# Altium integrated library Texas Instruments Interface RS-485.IntLib: 137 symbols (part 5 of 5)
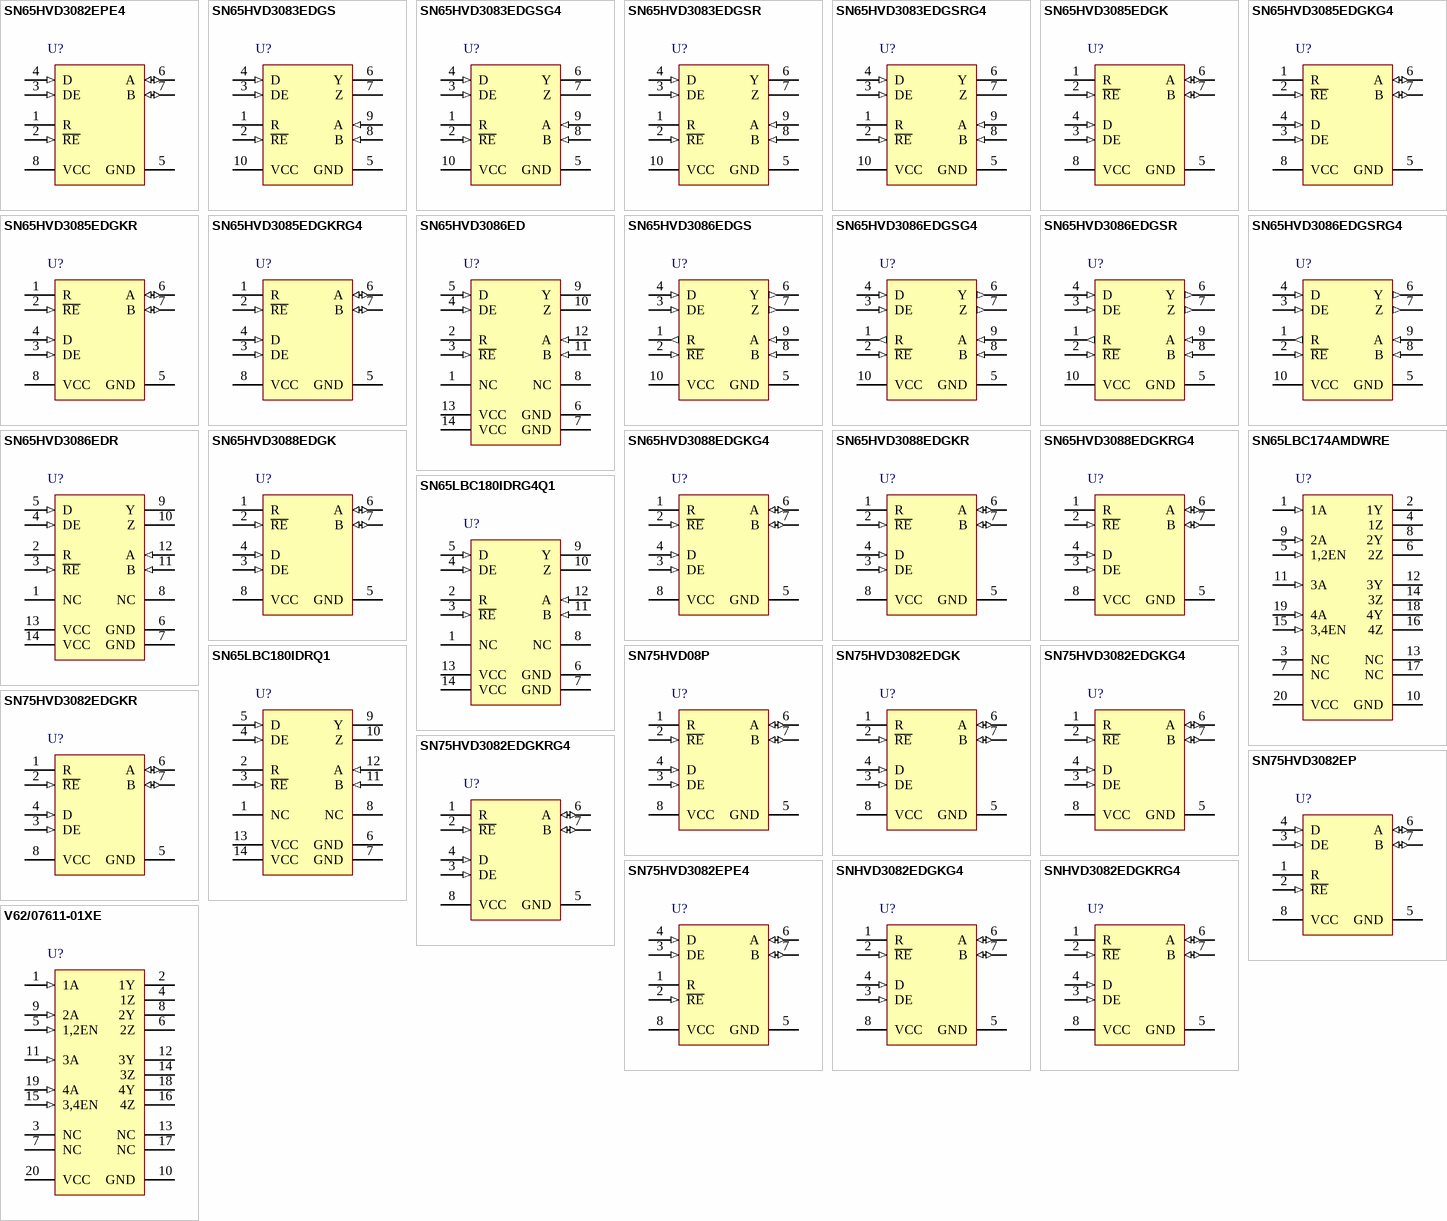
[diagram p7: symbols SN65HVD3082EPE4 to V62/07611-01XE]

## SN65HVD3083EDGSG4
designator U?
Low-Power RS-485 Full Duplex Driver / Receiver, 1 Mbps, 5 V, -40 to 85 degC, 10-pin MSOP (DGS), Green (RoHS & no Sb/Br); Manufacturer: Texas Instruments; PartNumber: SN65HVD3083EDGSG4; # of TX/RX: 1 TX / 1 RX; Drivers Per Package: 1; Number of Nodes: 256; Common Mode Range: -7 to 12; ESD(kV): 16; Fault Protection(V): -9 to 14; Fail Safe: Yes; ICC(Max)(mA): 0.75; Supply Voltage(s)(V): 5; Rating: Catalog; DatasheetVersion: SLLS771D; PackageVersion: revC, Feb-2004; PackageReference: DGS10; PackageDescription: 10-Pin Thin Shrink Small Outline Package 0.5 mm Pitch; Supplier 1: Digi-Key; Supplier Part Number 1: SN65HVD3083EDGSG4-ND; Supplier 2: Newark; Supplier Part Number 2: 28M7639; Supplier 3: Mouser; Supplier Part Number 3: 595-SN65HVD308EDGSG4; Eco-Plan: Green (RoHS & no Sb/Br); SubFamily: RS-485; Receivers Per Package: 1; Isolated: No; Duplex: Full; Signaling Rate(Mbps): 1; Mounting Technology: Surface Mount; Code_JEDEC: MO-187-BA; ComponentLink1Description: Datasheet; ComponentLink1URL: http://www.ti.com/general/docs/lit/getliterature.tsp?genericPartNumber=SN65HVD3083E&fileType=pdf; ComponentLink2Description: Package Specification; ComponentLink2URL: http://www.ti.com/litv/pdf/mpds035b
footprint DGS10_N (TSSOP, 10-Leads, Body 3x3mm, Pitch 0.5mm, IPC Medium Density)
footprint DGS10_L (TSSOP, 10-Leads, Body 3x3mm, Pitch 0.5mm, IPC High Density)
footprint DGS10_M (TSSOP, 10-Leads, Body 3x3mm, Pitch 0.5mm, IPC Low Density)
pins: 1 R (hiz), 2 ~{RE} (in), 3 DE (in), 4 D (in), 5 GND (power), 6 Y (hiz), 7 Z (hiz), 8 B (in), 9 A (in), 10 VCC (power)

## SN65HVD3083EDGSR
designator U?
Low-Power RS-485 Full Duplex Driver / Receiver, 1 Mbps, 5 V, -40 to 85 degC, 10-pin MSOP (DGS), Green (RoHS & no Sb/Br); Manufacturer: Texas Instruments; PartNumber: SN65HVD3083EDGSR; # of TX/RX: 1 TX / 1 RX; Drivers Per Package: 1; Number of Nodes: 256; Common Mode Range: -7 to 12; ESD(kV): 16; Fault Protection(V): -9 to 14; Fail Safe: Yes; ICC(Max)(mA): 0.75; Supply Voltage(s)(V): 5; Rating: Catalog; DatasheetVersion: SLLS771D; PackageVersion: revC, Feb-2004; PackageReference: DGS10; PackageDescription: 10-Pin Thin Shrink Small Outline Package 0.5 mm Pitch; Supplier 1: Digi-Key; Supplier Part Number 1: 296-21411-2-ND; Supplier 2: Digi-Key; Supplier Part Number 2: 296-21411-1-ND; Supplier 3: Digi-Key; Supplier Part Number 3: 296-21411-6-ND; Supplier 4: Newark; Supplier Part Number 4: 27M0824; Supplier 5: Mouser; Supplier Part Number 5: 595-SN65HVD3083EDGSR; Eco-Plan: Green (RoHS & no Sb/Br); SubFamily: RS-485; Receivers Per Package: 1; Isolated: No; Duplex: Full; Signaling Rate(Mbps): 1; Mounting Technology: Surface Mount; Code_JEDEC: MO-187-BA; ComponentLink1Description: Datasheet; ComponentLink1URL: http://www.ti.com/general/docs/lit/getliterature.tsp?genericPartNumber=SN65HVD3083E&fileType=pdf; ComponentLink2Description: Package Specification; ComponentLink2URL: http://www.ti.com/litv/pdf/mpds035b
footprint DGS10_N (TSSOP, 10-Leads, Body 3x3mm, Pitch 0.5mm, IPC Medium Density)
footprint DGS10_L (TSSOP, 10-Leads, Body 3x3mm, Pitch 0.5mm, IPC High Density)
footprint DGS10_M (TSSOP, 10-Leads, Body 3x3mm, Pitch 0.5mm, IPC Low Density)
pins: 1 R (hiz), 2 ~{RE} (in), 3 DE (in), 4 D (in), 5 GND (power), 6 Y (hiz), 7 Z (hiz), 8 B (in), 9 A (in), 10 VCC (power)

## SN65HVD3083EDGSRG4
designator U?
Low-Power RS-485 Full Duplex Driver / Receiver, 1 Mbps, 5 V, -40 to 85 degC, 10-pin MSOP (DGS), Green (RoHS & no Sb/Br); Manufacturer: Texas Instruments; PartNumber: SN65HVD3083EDGSRG4; # of TX/RX: 1 TX / 1 RX; Drivers Per Package: 1; Number of Nodes: 256; Common Mode Range: -7 to 12; ESD(kV): 16; Fault Protection(V): -9 to 14; Fail Safe: Yes; ICC(Max)(mA): 0.75; Supply Voltage(s)(V): 5; Rating: Catalog; DatasheetVersion: SLLS771D; PackageVersion: revC, Feb-2004; PackageReference: DGS10; PackageDescription: 10-Pin Thin Shrink Small Outline Package 0.5 mm Pitch; Supplier 1: Digi-Key; Supplier Part Number 1: SN65HVD3083EDGSRG4-ND; Supplier 2: Newark; Supplier Part Number 2: 28M7640; Supplier 3: Mouser; Supplier Part Number 3: 595-SN65HVD3083GSRG4; Eco-Plan: Green (RoHS & no Sb/Br); SubFamily: RS-485; Receivers Per Package: 1; Isolated: No; Duplex: Full; Signaling Rate(Mbps): 1; Mounting Technology: Surface Mount; Code_JEDEC: MO-187-BA; ComponentLink1Description: Datasheet; ComponentLink1URL: http://www.ti.com/general/docs/lit/getliterature.tsp?genericPartNumber=SN65HVD3083E&fileType=pdf; ComponentLink2Description: Package Specification; ComponentLink2URL: http://www.ti.com/litv/pdf/mpds035b
footprint DGS10_N (TSSOP, 10-Leads, Body 3x3mm, Pitch 0.5mm, IPC Medium Density)
footprint DGS10_L (TSSOP, 10-Leads, Body 3x3mm, Pitch 0.5mm, IPC High Density)
footprint DGS10_M (TSSOP, 10-Leads, Body 3x3mm, Pitch 0.5mm, IPC Low Density)
pins: 1 R (hiz), 2 ~{RE} (in), 3 DE (in), 4 D (in), 5 GND (power), 6 Y (hiz), 7 Z (hiz), 8 B (in), 9 A (in), 10 VCC (power)

## SN65HVD3085EDGK
designator U?
Low-power Half-Duplex RS-485 Transceiver, 1 Mbps, 5 V, -40 to 85 degC, 8-pin MSOP (DGK), Green (RoHS & no Sb/Br); Manufacturer: Texas Instruments; PartNumber: SN65HVD3085EDGK; # of TX/RX: 1 TX / 1 RX; Drivers Per Package: 1; Number of Nodes: 256; Duplex: Half; Common Mode Range: -7 to 12; ESD(kV): 16; Fault Protection(V): -9 to 14; Fail Safe: Idle, Open, Short; ICC(Max)(mA): 0.9; Supply Voltage(s)(V): 5; Rating: Catalog; DatasheetVersion: SLLS562G; PackageVersion: revE, May-2006; PackageReference: DGK8; PackageDescription: 8-Pin Thin Small Outline Package 3 x 3 mm Body ,0.65 mm Pitch; Supplier 1: Digi-Key; Supplier Part Number 1: 296-17171-5-ND; Supplier 2: Mouser; Supplier Part Number 2: 595-SN65HVD3085EDGK; Eco-Plan: Green (RoHS & no Sb/Br); SubFamily: RS-485; Receivers Per Package: 1; Isolated: No; Signaling Rate(Mbps): 1; Footprint: SN75176; Mounting Technology: Surface Mount; Code_JEDEC: MO-187-AA; ComponentLink1Description: Datasheet; ComponentLink1URL: http://www.ti.com/general/docs/lit/getliterature.tsp?genericPartNumber=SN65HVD3085E&fileType=pdf; ComponentLink2Description: Package Specification; ComponentLink2URL: http://www.ti.com/litv/pdf/msoi002j
footprint DGK8_N (TSOP, 8-Leads, Body 3x3mm, Pitch 0.65mm, IPC Medium Density)
footprint DGK8_L (TSOP, 8-Leads, Body 3x3mm, Pitch 0.65mm, IPC High Density)
footprint DGK8_M (TSOP, 8-Leads, Body 3x3mm, Pitch 0.65mm, IPC Low Density)
pins: 1 R (hiz), 2 ~{RE} (in), 3 DE (in), 4 D (in), 5 GND (power), 6 A (io), 7 B (io), 8 VCC (power)

## SN65HVD3085EDGKG4
designator U?
Low-power Half-Duplex RS-485 Transceiver, 1 Mbps, 5 V, -40 to 85 degC, 8-pin MSOP (DGK), Green (RoHS & no Sb/Br); Manufacturer: Texas Instruments; PartNumber: SN65HVD3085EDGKG4; # of TX/RX: 1 TX / 1 RX; Drivers Per Package: 1; Number of Nodes: 256; Duplex: Half; Common Mode Range: -7 to 12; ESD(kV): 16; Fault Protection(V): -9 to 14; Fail Safe: Idle, Open, Short; ICC(Max)(mA): 0.9; Supply Voltage(s)(V): 5; Rating: Catalog; DatasheetVersion: SLLS562G; PackageVersion: revE, May-2006; PackageReference: DGK8; PackageDescription: 8-Pin Thin Small Outline Package 3 x 3 mm Body ,0.65 mm Pitch; Supplier 1: Digi-Key; Supplier Part Number 1: SN65HVD3085EDGKG4-ND; Eco-Plan: Green (RoHS & no Sb/Br); SubFamily: RS-485; Receivers Per Package: 1; Isolated: No; Signaling Rate(Mbps): 1; Footprint: SN75176; Mounting Technology: Surface Mount; Code_JEDEC: MO-187-AA; ComponentLink1Description: Datasheet; ComponentLink1URL: http://www.ti.com/general/docs/lit/getliterature.tsp?genericPartNumber=SN65HVD3085E&fileType=pdf; ComponentLink2Description: Package Specification; ComponentLink2URL: http://www.ti.com/litv/pdf/msoi002j
footprint DGK8_N (TSOP, 8-Leads, Body 3x3mm, Pitch 0.65mm, IPC Medium Density)
footprint DGK8_L (TSOP, 8-Leads, Body 3x3mm, Pitch 0.65mm, IPC High Density)
footprint DGK8_M (TSOP, 8-Leads, Body 3x3mm, Pitch 0.65mm, IPC Low Density)
pins: 1 R (hiz), 2 ~{RE} (in), 3 DE (in), 4 D (in), 5 GND (power), 6 A (io), 7 B (io), 8 VCC (power)

## SN65HVD3085EDGKR
designator U?
Low-power Half-Duplex RS-485 Transceiver, 1 Mbps, 5 V, -40 to 85 degC, 8-pin MSOP (DGK), Green (RoHS & no Sb/Br); Manufacturer: Texas Instruments; PartNumber: SN65HVD3085EDGKR; # of TX/RX: 1 TX / 1 RX; Drivers Per Package: 1; Number of Nodes: 256; Duplex: Half; Common Mode Range: -7 to 12; ESD(kV): 16; Fault Protection(V): -9 to 14; Fail Safe: Idle, Open, Short; ICC(Max)(mA): 0.9; Supply Voltage(s)(V): 5; Rating: Catalog; DatasheetVersion: SLLS562G; PackageVersion: revE, May-2006; PackageReference: DGK8; PackageDescription: 8-Pin Thin Small Outline Package 3 x 3 mm Body ,0.65 mm Pitch; Supplier 1: Digi-Key; Supplier Part Number 1: SN65HVD3085EDGKR-ND; Supplier 2: Farnell; Supplier Part Number 2: 1574990; Supplier 3: Newark; Supplier Part Number 3: 21J8893; Supplier 4: Mouser; Supplier Part Number 4: 595-SN65HVD3085EDGKR; Eco-Plan: Green (RoHS & no Sb/Br); SubFamily: RS-485; Receivers Per Package: 1; Isolated: No; Signaling Rate(Mbps): 1; Footprint: SN75176; Mounting Technology: Surface Mount; Code_JEDEC: MO-187-AA; ComponentLink1Description: Datasheet; ComponentLink1URL: http://www.ti.com/general/docs/lit/getliterature.tsp?genericPartNumber=SN65HVD3085E&fileType=pdf; ComponentLink2Description: Package Specification; ComponentLink2URL: http://www.ti.com/litv/pdf/msoi002j
footprint DGK8_N (TSOP, 8-Leads, Body 3x3mm, Pitch 0.65mm, IPC Medium Density)
footprint DGK8_L (TSOP, 8-Leads, Body 3x3mm, Pitch 0.65mm, IPC High Density)
footprint DGK8_M (TSOP, 8-Leads, Body 3x3mm, Pitch 0.65mm, IPC Low Density)
pins: 1 R (hiz), 2 ~{RE} (in), 3 DE (in), 4 D (in), 5 GND (power), 6 A (io), 7 B (io), 8 VCC (power)

## SN65HVD3085EDGKRG4
designator U?
Low-power Half-Duplex RS-485 Transceiver, 1 Mbps, 5 V, -40 to 85 degC, 8-pin MSOP (DGK), Green (RoHS & no Sb/Br); Manufacturer: Texas Instruments; PartNumber: SN65HVD3085EDGKRG4; # of TX/RX: 1 TX / 1 RX; Drivers Per Package: 1; Number of Nodes: 256; Duplex: Half; Common Mode Range: -7 to 12; ESD(kV): 16; Fault Protection(V): -9 to 14; Fail Safe: Idle, Open, Short; ICC(Max)(mA): 0.9; Supply Voltage(s)(V): 5; Rating: Catalog; DatasheetVersion: SLLS562G; PackageVersion: revE, May-2006; PackageReference: DGK8; PackageDescription: 8-Pin Thin Small Outline Package 3 x 3 mm Body ,0.65 mm Pitch; Supplier 1: Digi-Key; Supplier Part Number 1: SN65HVD3085EDGKRG4-ND; Supplier 2: Mouser; Supplier Part Number 2: 595-SN65HVD3085EDGG4; Eco-Plan: Green (RoHS & no Sb/Br); SubFamily: RS-485; Receivers Per Package: 1; Isolated: No; Signaling Rate(Mbps): 1; Footprint: SN75176; Mounting Technology: Surface Mount; Code_JEDEC: MO-187-AA; ComponentLink1Description: Datasheet; ComponentLink1URL: http://www.ti.com/general/docs/lit/getliterature.tsp?genericPartNumber=SN65HVD3085E&fileType=pdf; ComponentLink2Description: Package Specification; ComponentLink2URL: http://www.ti.com/litv/pdf/msoi002j
footprint DGK8_N (TSOP, 8-Leads, Body 3x3mm, Pitch 0.65mm, IPC Medium Density)
footprint DGK8_L (TSOP, 8-Leads, Body 3x3mm, Pitch 0.65mm, IPC High Density)
footprint DGK8_M (TSOP, 8-Leads, Body 3x3mm, Pitch 0.65mm, IPC Low Density)
pins: 1 R (hiz), 2 ~{RE} (in), 3 DE (in), 4 D (in), 5 GND (power), 6 A (io), 7 B (io), 8 VCC (power)

## SN65HVD3086ED
designator U?
Low-Power RS-485 Full Duplex Driver / Receiver, 20 Mbps, 5 V, 14-pin SOIC (D), Green (RoHS & no Sb/Br); Manufacturer: Texas Instruments; PartNumber: SN65HVD3086ED; # of TX/RX: 1 TX / 1 RX; Drivers Per Package: 1; Number of Nodes: 256; Signaling Rate(Mbps): 20; Common Mode Range: -7 to 12; ESD(kV): 16; Fault Protection(V): -9 to 14; Fail Safe: Yes; ICC(Max)(mA): 0.75; Supply Voltage(s)(V): 5; Rating: Catalog; DatasheetVersion: SLLS771D; PackageVersion: revM, Jun-2011; PackageReference: D14; PackageDescription: 14-Pin Plastic Small Outline Integrated Circuit, 8.7 x 3.9 mm, Pitch 1.27 mm Pitch; Supplier 1: Digi-Key; Supplier Part Number 1: 296-25637-5-ND; Supplier 2: Newark; Supplier Part Number 2: 64R0586; Supplier 3: Mouser; Supplier Part Number 3: 595-SN65HVD3086ED; Eco-Plan: Green (RoHS & no Sb/Br); SubFamily: RS-485; Receivers Per Package: 1; Isolated: No; Duplex: Full; Footprint: LBC180; Mounting Technology: Surface Mount; Code_JEDEC: MS-012AB; ComponentLink1Description: Datasheet; ComponentLink1URL: http://www.ti.com/general/docs/lit/getliterature.tsp?genericPartNumber=SN65HVD3086E&fileType=pdf; ComponentLink2Description: Package Specification; ComponentLink2URL: http://www.ti.com/litv/pdf/mpds177g
footprint D14_N (SOIC, 14-Leads, Body 8.7x3.9mm, Pitch 1.27mm, IPC Medium Density)
footprint D14_L (SOIC, 14-Leads, Body 8.7x3.9mm, Pitch 1.27mm, IPC High Density)
footprint D14_M (SOIC, 14-Leads, Body 8.7x3.9mm, Pitch 1.27mm, IPC Low Density)
pins: 1 NC, 2 R (hiz), 3 ~{RE} (in), 4 DE (in), 5 D (in), 6 GND (power), 7 GND (power), 8 NC, 9 Y (hiz), 10 Z (hiz), 11 B (in), 12 A (in), 13 VCC (power), 14 VCC (power)

## SN65HVD3086EDGS
designator U?
Low-Power RS-485 Full Duplex Driver / Receiver, 20 Mbps, 5 V, -40 to 85 degC, 10-pin MSOP (DGS), Green (RoHS & no Sb/Br); Manufacturer: Texas Instruments; PartNumber: SN65HVD3086EDGS; # of TX/RX: 1 TX / 1 RX; Drivers Per Package: 1; Number of Nodes: 256; Signaling Rate(Mbps): 20; Common Mode Range: -7 to 12; ESD(kV): 16; Fault Protection(V): -9 to 14; Fail Safe: Yes; ICC(Max)(mA): 0.75; Supply Voltage(s)(V): 5; Rating: Catalog; DatasheetVersion: SLLS771D; PackageVersion: revC, Feb-2004; PackageReference: DGS10; PackageDescription: 10-Pin Thin Shrink Small Outline Package 0.5 mm Pitch; Supplier 1: Digi-Key; Supplier Part Number 1: SN65HVD3086EDGS-ND; Supplier 2: Newark; Supplier Part Number 2: 27M0825; Supplier 3: Mouser; Supplier Part Number 3: 595-SN65HVD3086EDGS; Eco-Plan: Green (RoHS & no Sb/Br); SubFamily: RS-485; Receivers Per Package: 1; Isolated: No; Duplex: Full; Footprint: LBC180; Mounting Technology: Surface Mount; Code_JEDEC: MO-187-BA; ComponentLink1Description: Datasheet; ComponentLink1URL: http://www.ti.com/general/docs/lit/getliterature.tsp?genericPartNumber=SN65HVD3086E&fileType=pdf; ComponentLink2Description: Package Specification; ComponentLink2URL: http://www.ti.com/litv/pdf/mpds035b
footprint DGS10_N (TSSOP, 10-Leads, Body 3x3mm, Pitch 0.5mm, IPC Medium Density)
footprint DGS10_L (TSSOP, 10-Leads, Body 3x3mm, Pitch 0.5mm, IPC High Density)
footprint DGS10_M (TSSOP, 10-Leads, Body 3x3mm, Pitch 0.5mm, IPC Low Density)
pins: 1 R (out), 2 ~{RE} (in), 3 DE (in), 4 D (in), 5 GND (power), 6 Y (out), 7 Z (out), 8 B (in), 9 A (in), 10 VCC (power)

## SN65HVD3086EDGSG4
designator U?
Low-Power RS-485 Full Duplex Driver / Receiver, 20 Mbps, 5 V, -40 to 85 degC, 10-pin MSOP (DGS), Green (RoHS & no Sb/Br); Manufacturer: Texas Instruments; PartNumber: SN65HVD3086EDGSG4; # of TX/RX: 1 TX / 1 RX; Drivers Per Package: 1; Number of Nodes: 256; Signaling Rate(Mbps): 20; Common Mode Range: -7 to 12; ESD(kV): 16; Fault Protection(V): -9 to 14; Fail Safe: Yes; ICC(Max)(mA): 0.75; Supply Voltage(s)(V): 5; Rating: Catalog; DatasheetVersion: SLLS771D; PackageVersion: revC, Feb-2004; PackageReference: DGS10; PackageDescription: 10-Pin Thin Shrink Small Outline Package 0.5 mm Pitch; Supplier 1: Digi-Key; Supplier Part Number 1: SN65HVD3086EDGSG4-ND; Supplier 2: Farnell; Supplier Part Number 2: 1390631; Supplier 3: Newark; Supplier Part Number 3: 61M9878; Supplier 4: Newark; Supplier Part Number 4: 34M0027; Supplier 5: Mouser; Supplier Part Number 5: 595-65HVD3086EDGSG4; Eco-Plan: Green (RoHS & no Sb/Br); SubFamily: RS-485; Receivers Per Package: 1; Isolated: No; Duplex: Full; Footprint: LBC180; Mounting Technology: Surface Mount; Code_JEDEC: MO-187-BA; ComponentLink1Description: Datasheet; ComponentLink1URL: http://www.ti.com/general/docs/lit/getliterature.tsp?genericPartNumber=SN65HVD3086E&fileType=pdf; ComponentLink2Description: Package Specification; ComponentLink2URL: http://www.ti.com/litv/pdf/mpds035b
footprint DGS10_N (TSSOP, 10-Leads, Body 3x3mm, Pitch 0.5mm, IPC Medium Density)
footprint DGS10_L (TSSOP, 10-Leads, Body 3x3mm, Pitch 0.5mm, IPC High Density)
footprint DGS10_M (TSSOP, 10-Leads, Body 3x3mm, Pitch 0.5mm, IPC Low Density)
pins: 1 R (out), 2 ~{RE} (in), 3 DE (in), 4 D (in), 5 GND (power), 6 Y (out), 7 Z (out), 8 B (in), 9 A (in), 10 VCC (power)

## SN65HVD3086EDGSR
designator U?
Low-Power RS-485 Full Duplex Driver / Receiver, 20 Mbps, 5 V, -40 to 85 degC, 10-pin MSOP (DGS), Green (RoHS & no Sb/Br); Manufacturer: Texas Instruments; PartNumber: SN65HVD3086EDGSR; # of TX/RX: 1 TX / 1 RX; Drivers Per Package: 1; Number of Nodes: 256; Signaling Rate(Mbps): 20; Common Mode Range: -7 to 12; ESD(kV): 16; Fault Protection(V): -9 to 14; Fail Safe: Yes; ICC(Max)(mA): 0.75; Supply Voltage(s)(V): 5; Rating: Catalog; DatasheetVersion: SLLS771D; PackageVersion: revC, Feb-2004; PackageReference: DGS10; PackageDescription: 10-Pin Thin Shrink Small Outline Package 0.5 mm Pitch; Supplier 1: Digi-Key; Supplier Part Number 1: 296-21412-2-ND; Supplier 2: Digi-Key; Supplier Part Number 2: 296-21412-1-ND; Supplier 3: Digi-Key; Supplier Part Number 3: 296-21412-6-ND; Supplier 4: Newark; Supplier Part Number 4: 27M0826; Supplier 5: Mouser; Supplier Part Number 5: 595-SN65HVD3086EDGSR; Eco-Plan: Green (RoHS & no Sb/Br); SubFamily: RS-485; Receivers Per Package: 1; Isolated: No; Duplex: Full; Footprint: LBC180; Mounting Technology: Surface Mount; Code_JEDEC: MO-187-BA; ComponentLink1Description: Datasheet; ComponentLink1URL: http://www.ti.com/general/docs/lit/getliterature.tsp?genericPartNumber=SN65HVD3086E&fileType=pdf; ComponentLink2Description: Package Specification; ComponentLink2URL: http://www.ti.com/litv/pdf/mpds035b
footprint DGS10_N (TSSOP, 10-Leads, Body 3x3mm, Pitch 0.5mm, IPC Medium Density)
footprint DGS10_L (TSSOP, 10-Leads, Body 3x3mm, Pitch 0.5mm, IPC High Density)
footprint DGS10_M (TSSOP, 10-Leads, Body 3x3mm, Pitch 0.5mm, IPC Low Density)
pins: 1 R (out), 2 ~{RE} (in), 3 DE (in), 4 D (in), 5 GND (power), 6 Y (out), 7 Z (out), 8 B (in), 9 A (in), 10 VCC (power)

## SN65HVD3086EDGSRG4
designator U?
Low-Power RS-485 Full Duplex Driver / Receiver, 20 Mbps, 5 V, -40 to 85 degC, 10-pin MSOP (DGS), Green (RoHS & no Sb/Br); Manufacturer: Texas Instruments; PartNumber: SN65HVD3086EDGSRG4; # of TX/RX: 1 TX / 1 RX; Drivers Per Package: 1; Number of Nodes: 256; Signaling Rate(Mbps): 20; Common Mode Range: -7 to 12; ESD(kV): 16; Fault Protection(V): -9 to 14; Fail Safe: Yes; ICC(Max)(mA): 0.75; Supply Voltage(s)(V): 5; Rating: Catalog; DatasheetVersion: SLLS771D; PackageVersion: revC, Feb-2004; PackageReference: DGS10; PackageDescription: 10-Pin Thin Shrink Small Outline Package 0.5 mm Pitch; Supplier 1: Digi-Key; Supplier Part Number 1: SN65HVD3086EDGSRG4-ND; Supplier 2: Newark; Supplier Part Number 2: 34M0028; Supplier 3: Mouser; Supplier Part Number 3: 595-65HVD3086EDGSRG4; Eco-Plan: Green (RoHS & no Sb/Br); SubFamily: RS-485; Receivers Per Package: 1; Isolated: No; Duplex: Full; Footprint: LBC180; Mounting Technology: Surface Mount; Code_JEDEC: MO-187-BA; ComponentLink1Description: Datasheet; ComponentLink1URL: http://www.ti.com/general/docs/lit/getliterature.tsp?genericPartNumber=SN65HVD3086E&fileType=pdf; ComponentLink2Description: Package Specification; ComponentLink2URL: http://www.ti.com/litv/pdf/mpds035b
footprint DGS10_N (TSSOP, 10-Leads, Body 3x3mm, Pitch 0.5mm, IPC Medium Density)
footprint DGS10_L (TSSOP, 10-Leads, Body 3x3mm, Pitch 0.5mm, IPC High Density)
footprint DGS10_M (TSSOP, 10-Leads, Body 3x3mm, Pitch 0.5mm, IPC Low Density)
pins: 1 R (out), 2 ~{RE} (in), 3 DE (in), 4 D (in), 5 GND (power), 6 Y (out), 7 Z (out), 8 B (in), 9 A (in), 10 VCC (power)

## SN65HVD3086EDR
designator U?
Low-Power RS-485 Full Duplex Driver / Receiver, 20 Mbps, 5 V, 14-pin SOIC (D), Green (RoHS & no Sb/Br); Manufacturer: Texas Instruments; PartNumber: SN65HVD3086EDR; # of TX/RX: 1 TX / 1 RX; Drivers Per Package: 1; Number of Nodes: 256; Signaling Rate(Mbps): 20; Common Mode Range: -7 to 12; ESD(kV): 16; Fault Protection(V): -9 to 14; Fail Safe: Yes; ICC(Max)(mA): 0.75; Supply Voltage(s)(V): 5; Rating: Catalog; DatasheetVersion: SLLS771D; PackageVersion: revM, Jun-2011; PackageReference: D14; PackageDescription: 14-Pin Plastic Small Outline Integrated Circuit, 8.7 x 3.9 mm, Pitch 1.27 mm Pitch; Supplier 1: Digi-Key; Supplier Part Number 1: SN65HVD3086EDR-ND; Supplier 2: Newark; Supplier Part Number 2: 64R0587; Supplier 3: Mouser; Supplier Part Number 3: 595-SN65HVD3086EDR; Eco-Plan: Green (RoHS & no Sb/Br); SubFamily: RS-485; Receivers Per Package: 1; Isolated: No; Duplex: Full; Footprint: LBC180; Mounting Technology: Surface Mount; Code_JEDEC: MS-012AB; ComponentLink1Description: Datasheet; ComponentLink1URL: http://www.ti.com/general/docs/lit/getliterature.tsp?genericPartNumber=SN65HVD3086E&fileType=pdf; ComponentLink2Description: Package Specification; ComponentLink2URL: http://www.ti.com/litv/pdf/mpds177g
footprint D14_N (SOIC, 14-Leads, Body 8.7x3.9mm, Pitch 1.27mm, IPC Medium Density)
footprint D14_L (SOIC, 14-Leads, Body 8.7x3.9mm, Pitch 1.27mm, IPC High Density)
footprint D14_M (SOIC, 14-Leads, Body 8.7x3.9mm, Pitch 1.27mm, IPC Low Density)
pins: 1 NC, 2 R (hiz), 3 ~{RE} (in), 4 DE (in), 5 D (in), 6 GND (power), 7 GND (power), 8 NC, 9 Y (hiz), 10 Z (hiz), 11 B (in), 12 A (in), 13 VCC (power), 14 VCC (power)

## SN65HVD3088EDGK
designator U?
Low-power Half-Duplex RS-485 Transceiver, 20 Mbps, 5 V, -40 to 85 degC, 8-pin MSOP (DGK), Green (RoHS & no Sb/Br); Manufacturer: Texas Instruments; PartNumber: SN65HVD3088EDGK; # of TX/RX: 1 TX / 1 RX; Drivers Per Package: 1; Number of Nodes: 256; Duplex: Half; Signaling Rate(Mbps): 20; Common Mode Range: -7 to 12; ESD(kV): 15; Fault Protection(V): -9 to 14; Fail Safe: Idle, Open, Short; ICC(Max)(mA): 0.9; Supply Voltage(s)(V): 5; Rating: Catalog; DatasheetVersion: SLLS562G; PackageVersion: revE, May-2006; PackageReference: DGK8; PackageDescription: 8-Pin Thin Small Outline Package 3 x 3 mm Body ,0.65 mm Pitch; Supplier 1: Digi-Key; Supplier Part Number 1: 296-17173-5-ND; Supplier 2: Mouser; Supplier Part Number 2: 595-SN65HVD3088EDGK; Eco-Plan: Green (RoHS & no Sb/Br); SubFamily: RS-485; Receivers Per Package: 1; Isolated: No; Footprint: SN75176; Mounting Technology: Surface Mount; Code_JEDEC: MO-187-AA; ComponentLink1Description: Datasheet; ComponentLink1URL: http://www.ti.com/general/docs/lit/getliterature.tsp?genericPartNumber=SN65HVD3088E&fileType=pdf; ComponentLink2Description: Package Specification; ComponentLink2URL: http://www.ti.com/litv/pdf/msoi002j
footprint DGK8_N (TSOP, 8-Leads, Body 3x3mm, Pitch 0.65mm, IPC Medium Density)
footprint DGK8_L (TSOP, 8-Leads, Body 3x3mm, Pitch 0.65mm, IPC High Density)
footprint DGK8_M (TSOP, 8-Leads, Body 3x3mm, Pitch 0.65mm, IPC Low Density)
pins: 1 R (hiz), 2 ~{RE} (in), 3 DE (in), 4 D (in), 5 GND (power), 6 A (io), 7 B (io), 8 VCC (power)

## SN65HVD3088EDGKG4
designator U?
Low-power Half-Duplex RS-485 Transceiver, 20 Mbps, 5 V, -40 to 85 degC, 8-pin MSOP (DGK), Green (RoHS & no Sb/Br); Manufacturer: Texas Instruments; PartNumber: SN65HVD3088EDGKG4; # of TX/RX: 1 TX / 1 RX; Drivers Per Package: 1; Number of Nodes: 256; Duplex: Half; Signaling Rate(Mbps): 20; Common Mode Range: -7 to 12; ESD(kV): 15; Fault Protection(V): -9 to 14; Fail Safe: Idle, Open, Short; ICC(Max)(mA): 0.9; Supply Voltage(s)(V): 5; Rating: Catalog; DatasheetVersion: SLLS562G; PackageVersion: revE, May-2006; PackageReference: DGK8; PackageDescription: 8-Pin Thin Small Outline Package 3 x 3 mm Body ,0.65 mm Pitch; Supplier 1: Digi-Key; Supplier Part Number 1: 296-27969-5-ND; Supplier 2: Mouser; Supplier Part Number 2: 595-SN65HVD30DGKG4; Eco-Plan: Green (RoHS & no Sb/Br); SubFamily: RS-485; Receivers Per Package: 1; Isolated: No; Footprint: SN75176; Mounting Technology: Surface Mount; Code_JEDEC: MO-187-AA; ComponentLink1Description: Datasheet; ComponentLink1URL: http://www.ti.com/general/docs/lit/getliterature.tsp?genericPartNumber=SN65HVD3088E&fileType=pdf; ComponentLink2Description: Package Specification; ComponentLink2URL: http://www.ti.com/litv/pdf/msoi002j
footprint DGK8_N (TSOP, 8-Leads, Body 3x3mm, Pitch 0.65mm, IPC Medium Density)
footprint DGK8_L (TSOP, 8-Leads, Body 3x3mm, Pitch 0.65mm, IPC High Density)
footprint DGK8_M (TSOP, 8-Leads, Body 3x3mm, Pitch 0.65mm, IPC Low Density)
pins: 1 R (hiz), 2 ~{RE} (in), 3 DE (in), 4 D (in), 5 GND (power), 6 A (io), 7 B (io), 8 VCC (power)

## SN65HVD3088EDGKR
designator U?
Low-power Half-Duplex RS-485 Transceiver, 20 Mbps, 5 V, -40 to 85 degC, 8-pin MSOP (DGK), Green (RoHS & no Sb/Br); Manufacturer: Texas Instruments; PartNumber: SN65HVD3088EDGKR; # of TX/RX: 1 TX / 1 RX; Drivers Per Package: 1; Number of Nodes: 256; Duplex: Half; Signaling Rate(Mbps): 20; Common Mode Range: -7 to 12; ESD(kV): 15; Fault Protection(V): -9 to 14; Fail Safe: Idle, Open, Short; ICC(Max)(mA): 0.9; Supply Voltage(s)(V): 5; Rating: Catalog; DatasheetVersion: SLLS562G; PackageVersion: revE, May-2006; PackageReference: DGK8; PackageDescription: 8-Pin Thin Small Outline Package 3 x 3 mm Body ,0.65 mm Pitch; Supplier 1: Digi-Key; Supplier Part Number 1: SN65HVD3088EDGKR-ND; Supplier 2: Newark; Supplier Part Number 2: 21J8897; Supplier 3: Mouser; Supplier Part Number 3: 595-SN65HVD3088EDGKR; Eco-Plan: Green (RoHS & no Sb/Br); SubFamily: RS-485; Receivers Per Package: 1; Isolated: No; Footprint: SN75176; Mounting Technology: Surface Mount; Code_JEDEC: MO-187-AA; ComponentLink1Description: Datasheet; ComponentLink1URL: http://www.ti.com/general/docs/lit/getliterature.tsp?genericPartNumber=SN65HVD3088E&fileType=pdf; ComponentLink2Description: Package Specification; ComponentLink2URL: http://www.ti.com/litv/pdf/msoi002j
footprint DGK8_N (TSOP, 8-Leads, Body 3x3mm, Pitch 0.65mm, IPC Medium Density)
footprint DGK8_L (TSOP, 8-Leads, Body 3x3mm, Pitch 0.65mm, IPC High Density)
footprint DGK8_M (TSOP, 8-Leads, Body 3x3mm, Pitch 0.65mm, IPC Low Density)
pins: 1 R (hiz), 2 ~{RE} (in), 3 DE (in), 4 D (in), 5 GND (power), 6 A (io), 7 B (io), 8 VCC (power)

## SN65HVD3088EDGKRG4
designator U?
Low-power Half-Duplex RS-485 Transceiver, 20 Mbps, 5 V, -40 to 85 degC, 8-pin MSOP (DGK), Green (RoHS & no Sb/Br); Manufacturer: Texas Instruments; PartNumber: SN65HVD3088EDGKRG4; # of TX/RX: 1 TX / 1 RX; Drivers Per Package: 1; Number of Nodes: 256; Duplex: Half; Signaling Rate(Mbps): 20; Common Mode Range: -7 to 12; ESD(kV): 15; Fault Protection(V): -9 to 14; Fail Safe: Idle, Open, Short; ICC(Max)(mA): 0.9; Supply Voltage(s)(V): 5; Rating: Catalog; DatasheetVersion: SLLS562G; PackageVersion: revE, May-2006; PackageReference: DGK8; PackageDescription: 8-Pin Thin Small Outline Package 3 x 3 mm Body ,0.65 mm Pitch; Supplier 1: Digi-Key; Supplier Part Number 1: SN65HVD3088EDGKRG4-ND; Supplier 2: Mouser; Supplier Part Number 2: 595-SN65HVD3088EDGG4; Eco-Plan: Green (RoHS & no Sb/Br); SubFamily: RS-485; Receivers Per Package: 1; Isolated: No; Footprint: SN75176; Mounting Technology: Surface Mount; Code_JEDEC: MO-187-AA; ComponentLink1Description: Datasheet; ComponentLink1URL: http://www.ti.com/general/docs/lit/getliterature.tsp?genericPartNumber=SN65HVD3088E&fileType=pdf; ComponentLink2Description: Package Specification; ComponentLink2URL: http://www.ti.com/litv/pdf/msoi002j
footprint DGK8_N (TSOP, 8-Leads, Body 3x3mm, Pitch 0.65mm, IPC Medium Density)
footprint DGK8_L (TSOP, 8-Leads, Body 3x3mm, Pitch 0.65mm, IPC High Density)
footprint DGK8_M (TSOP, 8-Leads, Body 3x3mm, Pitch 0.65mm, IPC Low Density)
pins: 1 R (hiz), 2 ~{RE} (in), 3 DE (in), 4 D (in), 5 GND (power), 6 A (io), 7 B (io), 8 VCC (power)

## SN65LBC174AMDWRE
designator U?
Enhanced Product Quadruple RS-485 Differential Line Driver, 30 Mbps, 5 V, , -55 to 125 degC, 20-pin SOIC (DW), Green (RoHS & no Sb/Br); Manufacturer: Texas Instruments; PartNumber: SN65LBC174AMDWRE; # of TX/RX: 4 TX / 0 RX; Drivers Per Package: 4; Number of Nodes: 32; Signaling Rate(Mbps): 30; Common Mode Range: -7 to 12; ESD(kV): 13; Fault Protection(V): -10 to 15; ICC(Max)(mA): 23; Supply Voltage(s)(V): 5; Rating: HiRel Enhanced Product; DatasheetVersion: SLLS732; PackageVersion: revG, Jan-2011; PackageReference: DW20; PackageDescription: 20-Pin Plastic Small Outline Integrated Circuit, 12.8 x 7.5 mm, Pitch 1.27 mm Pitch; Eco-Plan: Green (RoHS & no Sb/Br); SubFamily: RS-485; Receivers Per Package: 4; Isolated: No; Duplex: N/A; Mounting Technology: Surface Mount; Code_JEDEC: MS-013-AC; ComponentLink1Description: Datasheet; ComponentLink1URL: http://www.ti.com/general/docs/lit/getliterature.tsp?genericPartNumber=SN65LBC174A-EP&fileType=pdf; ComponentLink2Description: Package Specification; ComponentLink2URL: http://www.ti.com/litv/pdf/mpds006c
footprint DW20_N (SOIC, 20-Leads, Body 12.8x7.5mm, Pitch 1.27mm, IPC Medium Density)
footprint DW20_L (SOIC, 20-Leads, Body 12.8x7.5mm, Pitch 1.27mm, IPC High Density)
footprint DW20_M (SOIC, 20-Leads, Body 12.8x7.5mm, Pitch 1.27mm, IPC Low Density)
pins: 1 1A (in), 2 1Y (hiz), 3 NC, 4 1Z (hiz), 5 1,2EN (in), 6 2Z (hiz), 7 NC, 8 2Y (hiz), 9 2A (in), 10 GND (power), 11 3A (in), 12 3Y (hiz), 13 NC, 14 3Z (hiz), 15 3,4EN (in), 16 4Z (hiz), 17 NC, 18 4Y (hiz), 19 4A (in), 20 VCC (power)

## SN65LBC180IDRG4Q1
designator U?
Automotive Catalog Low-Power Differential Line Driver and Receiver Pair, 10 Mbps, 5 V, Full Duplex, -40 to 85 degC, 14-pin SOIC (D), Green (RoHS & no Sb/Br); Manufacturer: Texas Instruments; PartNumber: SN65LBC180IDRG4Q1; SubFamily: RS-485; # of TX/RX: 1 TX / 1 RX; Drivers Per Package: 1; Number of Nodes: 32; Signaling Rate(Mbps): 10; Common Mode Range: -7 to 12; Fault Protection(V): -10 to 15; Fail Safe: Open; ICC(Max)(mA): 5; DatasheetVersion: SGLS251A; PackageVersion: revM, Jun-2011; PackageReference: D14; PackageDescription: 14-Pin Plastic Small Outline Integrated Circuit, 8.7 x 3.9 mm, Pitch 1.27 mm Pitch; Supplier 1: Digi-Key; Supplier Part Number 1: SN65LBC180IDRG4Q1-ND; Supplier 2: Newark; Supplier Part Number 2: 99M5638; Supplier 3: Mouser; Supplier Part Number 3: 595-N65LBC180IDRG4Q1; Eco-Plan: Green (RoHS & no Sb/Br); Receivers Per Package: 1; Isolated: No; Duplex: Full; Supply Voltage(s)(V): 5; Rating: Automotive; Footprint: SN75LBC180; Mounting Technology: Surface Mount; Code_JEDEC: MS-012AB; ComponentLink1Description: Datasheet; ComponentLink1URL: http://www.ti.com/general/docs/lit/getliterature.tsp?genericPartNumber=SN65LBC180-Q1&fileType=pdf; ComponentLink2Description: Package Specification; ComponentLink2URL: http://www.ti.com/litv/pdf/mpds177g
footprint D14_N (SOIC, 14-Leads, Body 8.7x3.9mm, Pitch 1.27mm, IPC Medium Density)
footprint D14_L (SOIC, 14-Leads, Body 8.7x3.9mm, Pitch 1.27mm, IPC High Density)
footprint D14_M (SOIC, 14-Leads, Body 8.7x3.9mm, Pitch 1.27mm, IPC Low Density)
pins: 1 NC, 2 R (hiz), 3 ~{RE} (in), 4 DE (in), 5 D (in), 6 GND (power), 7 GND (power), 8 NC, 9 Y (hiz), 10 Z (hiz), 11 B (in), 12 A (in), 13 VCC (power), 14 VCC (power)

## SN65LBC180IDRQ1
designator U?
Automotive Catalog Low-Power Differential Line Driver and Receiver Pair, 10 Mbps, 5 V, Full Duplex, -40 to 85 degC, 14-pin SOIC (D), Green (RoHS & no Sb/Br); Manufacturer: Texas Instruments; PartNumber: SN65LBC180IDRQ1; SubFamily: RS-485; # of TX/RX: 1 TX / 1 RX; Drivers Per Package: 1; Number of Nodes: 32; Signaling Rate(Mbps): 10; Common Mode Range: -7 to 12; Fault Protection(V): -10 to 15; Fail Safe: Open; ICC(Max)(mA): 5; DatasheetVersion: SGLS251A; PackageVersion: revM, Jun-2011; PackageReference: D14; PackageDescription: 14-Pin Plastic Small Outline Integrated Circuit, 8.7 x 3.9 mm, Pitch 1.27 mm Pitch; Supplier 1: Digi-Key; Supplier Part Number 1: SN65LBC180IDRQ1-ND; Supplier 2: Mouser; Supplier Part Number 2: 595-SN65LBC180IDRQ1; Eco-Plan: Green (RoHS & no Sb/Br); Receivers Per Package: 1; Isolated: No; Duplex: Full; Supply Voltage(s)(V): 5; Rating: Automotive; Footprint: SN75LBC180; Mounting Technology: Surface Mount; Code_JEDEC: MS-012AB; ComponentLink1Description: Datasheet; ComponentLink1URL: http://www.ti.com/general/docs/lit/getliterature.tsp?genericPartNumber=SN65LBC180-Q1&fileType=pdf; ComponentLink2Description: Package Specification; ComponentLink2URL: http://www.ti.com/litv/pdf/mpds177g
footprint D14_N (SOIC, 14-Leads, Body 8.7x3.9mm, Pitch 1.27mm, IPC Medium Density)
footprint D14_L (SOIC, 14-Leads, Body 8.7x3.9mm, Pitch 1.27mm, IPC High Density)
footprint D14_M (SOIC, 14-Leads, Body 8.7x3.9mm, Pitch 1.27mm, IPC Low Density)
pins: 1 NC, 2 R (hiz), 3 ~{RE} (in), 4 DE (in), 5 D (in), 6 GND (power), 7 GND (power), 8 NC, 9 Y (hiz), 10 Z (hiz), 11 B (in), 12 A (in), 13 VCC (power), 14 VCC (power)

## SN75HVD08P
designator U?
3.3 / 5 V RS-485 Transceiver, 10 Mbps, Half Duplex, 0 to 70 degC, 8-pin PDIP (P), Pb-Free (RoHS); Manufacturer: Texas Instruments; PartNumber: SN75HVD08P; Eco-Plan: Green (RoHS & no Sb/Br); # of TX/RX: 1 TX / 1 RX; Drivers Per Package: 1; Isolated: No; Number of Nodes: 256; Signaling Rate(Mbps): 10; Common Mode Range: -7 to 12; ESD(kV): 16; Fault Protection(V): -9 to 14; Fail Safe: Open, Short; Supply Voltage(s)(V): 3.3, 5; Rating: Catalog; DatasheetVersion: SLLS550C; PackageVersion: revE, Apr-2010; PackageReference: P8; PackageDescription: 8-Pin Plastic Dual-In-Line Package, Row Spacing 7.62 mm, Pitch 2.54 mm; Supplier 1: Digi-Key; Supplier Part Number 1: SN75HVD08P-ND; Supplier 2: Mouser; Supplier Part Number 2: 595-SN75HVD08P; SubFamily: RS-485; Receivers Per Package: 1; Duplex: Half; ICC(Max)(mA): 16; Footprint: SN75176; Mounting Technology: Through-hole; Code_JEDEC: MS-001-BA; ComponentLink1Description: Datasheet; ComponentLink1URL: http://www.ti.com/general/docs/lit/getliterature.tsp?genericPartNumber=SN75HVD08&fileType=pdf; ComponentLink2Description: Package Specification; ComponentLink2URL: http://www.ti.com/litv/pdf/mpdi001b
footprint P8 (DIP, 8-Leads, Row Spacing 7.62mm, Pitch 2.54mm, Body 9.6x6.4mm)
pins: 1 R (hiz), 2 ~{RE} (in), 3 DE (in), 4 D (in), 5 GND (power), 6 A (io), 7 B (io), 8 VCC (power)

## SN75HVD3082EDGK
designator U?
Low-Power RS-485 Transceiver, 0.2 Mbps, 5 V, Half Duplex, 0 to 70 degC, 8-pin MSOP (DGK), Green (RoHS & no Sb/Br); Manufacturer: Texas Instruments; PartNumber: SN75HVD3082EDGK; # of TX/RX: 1 TX / 1 RX; Drivers Per Package: 1; Number of Nodes: 256; Signaling Rate(Mbps): 0.2; Common Mode Range: -7 to 12; ESD(kV): 15; Fault Protection(V): -9 to 14; Fail Safe: Open, Short; ICC(Max)(mA): 0.9; Supply Voltage(s)(V): 5; Rating: Catalog; DatasheetVersion: SLLS562G; PackageVersion: revE, May-2006; PackageReference: DGK8; PackageDescription: 8-Pin Thin Small Outline Package 3 x 3 mm Body ,0.65 mm Pitch; Supplier 1: Digi-Key; Supplier Part Number 1: SN75HVD3082EDGK-ND; Supplier 2: Mouser; Supplier Part Number 2: 595-SN75HVD3082EDGK; Eco-Plan: Green (RoHS & no Sb/Br); SubFamily: RS-485; Receivers Per Package: 1; Isolated: No; Duplex: Half; Footprint: SN75176; Mounting Technology: Surface Mount; Code_JEDEC: MO-187-AA; ComponentLink1Description: Datasheet; ComponentLink1URL: http://www.ti.com/general/docs/lit/getliterature.tsp?genericPartNumber=SN75HVD3082E&fileType=pdf; ComponentLink2Description: Package Specification; ComponentLink2URL: http://www.ti.com/litv/pdf/msoi002j
footprint DGK8_N (TSOP, 8-Leads, Body 3x3mm, Pitch 0.65mm, IPC Medium Density)
footprint DGK8_L (TSOP, 8-Leads, Body 3x3mm, Pitch 0.65mm, IPC High Density)
footprint DGK8_M (TSOP, 8-Leads, Body 3x3mm, Pitch 0.65mm, IPC Low Density)
pins: 1 R (hiz), 2 ~{RE} (in), 3 DE (in), 4 D (in), 5 GND (power), 6 A (io), 7 B (io), 8 VCC (power)

## SN75HVD3082EDGKG4
designator U?
Low-Power RS-485 Transceiver, 0.2 Mbps, 5 V, Half Duplex, 0 to 70 degC, 8-pin MSOP (DGK), Green (RoHS & no Sb/Br); Manufacturer: Texas Instruments; PartNumber: SN75HVD3082EDGKG4; # of TX/RX: 1 TX / 1 RX; Drivers Per Package: 1; Number of Nodes: 256; Signaling Rate(Mbps): 0.2; Common Mode Range: -7 to 12; ESD(kV): 15; Fault Protection(V): -9 to 14; Fail Safe: Open, Short; ICC(Max)(mA): 0.9; Supply Voltage(s)(V): 5; Rating: Catalog; DatasheetVersion: SLLS562G; PackageVersion: revE, May-2006; PackageReference: DGK8; PackageDescription: 8-Pin Thin Small Outline Package 3 x 3 mm Body ,0.65 mm Pitch; Supplier 1: Digi-Key; Supplier Part Number 1: SN75HVD3082EDGKG4-ND; Supplier 2: Mouser; Supplier Part Number 2: 595-SN75HVD3082EDGKG; Eco-Plan: Green (RoHS & no Sb/Br); SubFamily: RS-485; Receivers Per Package: 1; Isolated: No; Duplex: Half; Footprint: SN75176; Mounting Technology: Surface Mount; Code_JEDEC: MO-187-AA; ComponentLink1Description: Datasheet; ComponentLink1URL: http://www.ti.com/general/docs/lit/getliterature.tsp?genericPartNumber=SN75HVD3082E&fileType=pdf; ComponentLink2Description: Package Specification; ComponentLink2URL: http://www.ti.com/litv/pdf/msoi002j
footprint DGK8_N (TSOP, 8-Leads, Body 3x3mm, Pitch 0.65mm, IPC Medium Density)
footprint DGK8_L (TSOP, 8-Leads, Body 3x3mm, Pitch 0.65mm, IPC High Density)
footprint DGK8_M (TSOP, 8-Leads, Body 3x3mm, Pitch 0.65mm, IPC Low Density)
pins: 1 R (hiz), 2 ~{RE} (in), 3 DE (in), 4 D (in), 5 GND (power), 6 A (io), 7 B (io), 8 VCC (power)

## SN75HVD3082EDGKR
designator U?
Low-Power RS-485 Transceiver, 0.2 Mbps, 5 V, Half Duplex, 0 to 70 degC, 8-pin MSOP (DGK), Green (RoHS & no Sb/Br); Manufacturer: Texas Instruments; PartNumber: SN75HVD3082EDGKR; # of TX/RX: 1 TX / 1 RX; Drivers Per Package: 1; Number of Nodes: 256; Signaling Rate(Mbps): 0.2; Common Mode Range: -7 to 12; ESD(kV): 15; Fault Protection(V): -9 to 14; Fail Safe: Open, Short; ICC(Max)(mA): 0.9; Supply Voltage(s)(V): 5; Rating: Catalog; DatasheetVersion: SLLS562G; PackageVersion: revE, May-2006; PackageReference: DGK8; PackageDescription: 8-Pin Thin Small Outline Package 3 x 3 mm Body ,0.65 mm Pitch; Supplier 1: Digi-Key; Supplier Part Number 1: SN75HVD3082EDGKR-ND; Supplier 2: Mouser; Supplier Part Number 2: 595-SN75HVD3082EDGKR; Eco-Plan: Green (RoHS & no Sb/Br); SubFamily: RS-485; Receivers Per Package: 1; Isolated: No; Duplex: Half; Footprint: SN75176; Mounting Technology: Surface Mount; Code_JEDEC: MO-187-AA; ComponentLink1Description: Datasheet; ComponentLink1URL: http://www.ti.com/general/docs/lit/getliterature.tsp?genericPartNumber=SN75HVD3082E&fileType=pdf; ComponentLink2Description: Package Specification; ComponentLink2URL: http://www.ti.com/litv/pdf/msoi002j
footprint DGK8_N (TSOP, 8-Leads, Body 3x3mm, Pitch 0.65mm, IPC Medium Density)
footprint DGK8_L (TSOP, 8-Leads, Body 3x3mm, Pitch 0.65mm, IPC High Density)
footprint DGK8_M (TSOP, 8-Leads, Body 3x3mm, Pitch 0.65mm, IPC Low Density)
pins: 1 R (hiz), 2 ~{RE} (in), 3 DE (in), 4 D (in), 5 GND (power), 6 A (io), 7 B (io), 8 VCC (power)

## SN75HVD3082EDGKRG4
designator U?
Low-Power RS-485 Transceiver, 0.2 Mbps, 5 V, Half Duplex, 0 to 70 degC, 8-pin MSOP (DGK), Green (RoHS & no Sb/Br); Manufacturer: Texas Instruments; PartNumber: SN75HVD3082EDGKRG4; # of TX/RX: 1 TX / 1 RX; Drivers Per Package: 1; Number of Nodes: 256; Signaling Rate(Mbps): 0.2; Common Mode Range: -7 to 12; ESD(kV): 15; Fault Protection(V): -9 to 14; Fail Safe: Open, Short; ICC(Max)(mA): 0.9; Supply Voltage(s)(V): 5; Rating: Catalog; DatasheetVersion: SLLS562G; PackageVersion: revE, May-2006; PackageReference: DGK8; PackageDescription: 8-Pin Thin Small Outline Package 3 x 3 mm Body ,0.65 mm Pitch; Supplier 1: Digi-Key; Supplier Part Number 1: SN75HVD3082EDGKRG4-ND; Supplier 2: Mouser; Supplier Part Number 2: 595-SN75HVD3082EDGG4; Eco-Plan: Green (RoHS & no Sb/Br); SubFamily: RS-485; Receivers Per Package: 1; Isolated: No; Duplex: Half; Footprint: SN75176; Mounting Technology: Surface Mount; Code_JEDEC: MO-187-AA; ComponentLink1Description: Datasheet; ComponentLink1URL: http://www.ti.com/general/docs/lit/getliterature.tsp?genericPartNumber=SN75HVD3082E&fileType=pdf; ComponentLink2Description: Package Specification; ComponentLink2URL: http://www.ti.com/litv/pdf/msoi002j
footprint DGK8_N (TSOP, 8-Leads, Body 3x3mm, Pitch 0.65mm, IPC Medium Density)
footprint DGK8_L (TSOP, 8-Leads, Body 3x3mm, Pitch 0.65mm, IPC High Density)
footprint DGK8_M (TSOP, 8-Leads, Body 3x3mm, Pitch 0.65mm, IPC Low Density)
pins: 1 R (hiz), 2 ~{RE} (in), 3 DE (in), 4 D (in), 5 GND (power), 6 A (io), 7 B (io), 8 VCC (power)

## SN75HVD3082EP
designator U?
Low-Power RS-485 Transceiver, 0.2 Mbps, 5 V, Half Duplex, 0 to 70 degC, 8-pin PDIP (P), Pb-Free (RoHS); Manufacturer: Texas Instruments; PartNumber: SN75HVD3082EP; Eco-Plan: Green (RoHS & no Sb/Br); # of TX/RX: 1 TX / 1 RX; Drivers Per Package: 1; Isolated: No; Number of Nodes: 256; Signaling Rate(Mbps): 0.2; Common Mode Range: -7 to 12; ESD(kV): 15; Fault Protection(V): -9 to 14; Fail Safe: Open, Short; ICC(Max)(mA): 0.9; Supply Voltage(s)(V): 5; Rating: Catalog; DatasheetVersion: SLLS562G; PackageVersion: revE, Apr-2010; PackageReference: P8; PackageDescription: 8-Pin Plastic Dual-In-Line Package, Row Spacing 7.62 mm, Pitch 2.54 mm; Supplier 1: Digi-Key; Supplier Part Number 1: 296-26660-5-ND; Supplier 2: Newark; Supplier Part Number 2: 61H5451; Supplier 3: Mouser; Supplier Part Number 3: 595-SN75HVD3082EP; SubFamily: RS-485; Receivers Per Package: 1; Duplex: Half; Footprint: SN75176; Mounting Technology: Through-hole; Code_JEDEC: MS-001-BA; ComponentLink1Description: Datasheet; ComponentLink1URL: http://www.ti.com/general/docs/lit/getliterature.tsp?genericPartNumber=SN75HVD3082E&fileType=pdf; ComponentLink2Description: Package Specification; ComponentLink2URL: http://www.ti.com/litv/pdf/mpdi001b
footprint P8 (DIP, 8-Leads, Row Spacing 7.62mm, Pitch 2.54mm, Body 9.6x6.4mm)
pins: 1 R (hiz), 2 ~{RE} (in), 3 DE (in), 4 D (in), 5 GND (power), 6 A (io), 7 B (io), 8 VCC (power)

## SN75HVD3082EPE4
designator U?
Low-Power RS-485 Transceiver, 0.2 Mbps, 5 V, Half Duplex, 0 to 70 degC, 8-pin PDIP (P), Pb-Free (RoHS); Manufacturer: Texas Instruments; PartNumber: SN75HVD3082EPE4; Eco-Plan: Green (RoHS & no Sb/Br); # of TX/RX: 1 TX / 1 RX; Drivers Per Package: 1; Isolated: No; Number of Nodes: 256; Signaling Rate(Mbps): 0.2; Common Mode Range: -7 to 12; ESD(kV): 15; Fault Protection(V): -9 to 14; Fail Safe: Open, Short; ICC(Max)(mA): 0.9; Supply Voltage(s)(V): 5; Rating: Catalog; DatasheetVersion: SLLS562G; PackageVersion: revE, Apr-2010; PackageReference: P8; PackageDescription: 8-Pin Plastic Dual-In-Line Package, Row Spacing 7.62 mm, Pitch 2.54 mm; Supplier 1: Digi-Key; Supplier Part Number 1: SN75HVD3082EPE4-ND; Supplier 2: Mouser; Supplier Part Number 2: 595-SN75HVD3082EPE4; SubFamily: RS-485; Receivers Per Package: 1; Duplex: Half; Footprint: SN75176; Mounting Technology: Through-hole; Code_JEDEC: MS-001-BA; ComponentLink1Description: Datasheet; ComponentLink1URL: http://www.ti.com/general/docs/lit/getliterature.tsp?genericPartNumber=SN75HVD3082E&fileType=pdf; ComponentLink2Description: Package Specification; ComponentLink2URL: http://www.ti.com/litv/pdf/mpdi001b
footprint P8 (DIP, 8-Leads, Row Spacing 7.62mm, Pitch 2.54mm, Body 9.6x6.4mm)
pins: 1 R (hiz), 2 ~{RE} (in), 3 DE (in), 4 D (in), 5 GND (power), 6 A (io), 7 B (io), 8 VCC (power)

## SNHVD3082EDGKG4
designator U?
Low-Power RS-485 Transceiver, 0.2 Mbps, 5 V, Half Duplex, -40 to 85 degC, 8-pin MSOP (DGK), Green (RoHS & no Sb/Br); Manufacturer: Texas Instruments; PartNumber: SNHVD3082EDGKG4; # of TX/RX: 1 TX / 1 RX; Drivers Per Package: 1; Number of Nodes: 256; Signaling Rate(Mbps): 0.2; Common Mode Range: -7 to 12; ESD(kV): 15; Fault Protection(V): -9 to 14; Fail Safe: Idle, Open, Short; ICC(Max)(mA): 0.9; Supply Voltage(s)(V): 5; Rating: Catalog; DatasheetVersion: SLLS562G; PackageVersion: revE, May-2006; PackageReference: DGK8; PackageDescription: 8-Pin Thin Small Outline Package 3 x 3 mm Body ,0.65 mm Pitch; Supplier 1: Digi-Key; Supplier Part Number 1: SNHVD3082EDGKG4-ND; Supplier 2: Mouser; Supplier Part Number 2: 595-SNHVD3082EDGKG4; Eco-Plan: Green (RoHS & no Sb/Br); SubFamily: RS-485; Receivers Per Package: 1; Isolated: No; Duplex: Half; Footprint: SN75176; Mounting Technology: Surface Mount; Code_JEDEC: MO-187-AA; ComponentLink1Description: Datasheet; ComponentLink1URL: http://www.ti.com/general/docs/lit/getliterature.tsp?genericPartNumber=SN65HVD3082E&fileType=pdf; ComponentLink2Description: Package Specification; ComponentLink2URL: http://www.ti.com/litv/pdf/msoi002j
footprint DGK8_N (TSOP, 8-Leads, Body 3x3mm, Pitch 0.65mm, IPC Medium Density)
footprint DGK8_L (TSOP, 8-Leads, Body 3x3mm, Pitch 0.65mm, IPC High Density)
footprint DGK8_M (TSOP, 8-Leads, Body 3x3mm, Pitch 0.65mm, IPC Low Density)
pins: 1 R (hiz), 2 ~{RE} (in), 3 DE (in), 4 D (in), 5 GND (power), 6 A (io), 7 B (io), 8 VCC (power)

## SNHVD3082EDGKRG4
designator U?
Low-Power RS-485 Transceiver, 0.2 Mbps, 5 V, Half Duplex, -40 to 85 degC, 8-pin MSOP (DGK), Green (RoHS & no Sb/Br); Manufacturer: Texas Instruments; PartNumber: SNHVD3082EDGKRG4; # of TX/RX: 1 TX / 1 RX; Drivers Per Package: 1; Number of Nodes: 256; Signaling Rate(Mbps): 0.2; Common Mode Range: -7 to 12; ESD(kV): 15; Fault Protection(V): -9 to 14; Fail Safe: Idle, Open, Short; ICC(Max)(mA): 0.9; Supply Voltage(s)(V): 5; Rating: Catalog; DatasheetVersion: SLLS562G; PackageVersion: revE, May-2006; PackageReference: DGK8; PackageDescription: 8-Pin Thin Small Outline Package 3 x 3 mm Body ,0.65 mm Pitch; Supplier 1: Digi-Key; Supplier Part Number 1: SNHVD3082EDGKRG4-ND; Supplier 2: Mouser; Supplier Part Number 2: 595-SNHVD3082EDGKRG4; Eco-Plan: Green (RoHS & no Sb/Br); SubFamily: RS-485; Receivers Per Package: 1; Isolated: No; Duplex: Half; Footprint: SN75176; Mounting Technology: Surface Mount; Code_JEDEC: MO-187-AA; ComponentLink1Description: Datasheet; ComponentLink1URL: http://www.ti.com/general/docs/lit/getliterature.tsp?genericPartNumber=SN65HVD3082E&fileType=pdf; ComponentLink2Description: Package Specification; ComponentLink2URL: http://www.ti.com/litv/pdf/msoi002j
footprint DGK8_N (TSOP, 8-Leads, Body 3x3mm, Pitch 0.65mm, IPC Medium Density)
footprint DGK8_L (TSOP, 8-Leads, Body 3x3mm, Pitch 0.65mm, IPC High Density)
footprint DGK8_M (TSOP, 8-Leads, Body 3x3mm, Pitch 0.65mm, IPC Low Density)
pins: 1 R (hiz), 2 ~{RE} (in), 3 DE (in), 4 D (in), 5 GND (power), 6 A (io), 7 B (io), 8 VCC (power)

## V62/07611-01XE
designator U?
Enhanced Product Quadruple RS-485 Differential Line Driver, 30 Mbps, 5 V, , -55 to 125 degC, 20-pin SOIC (DW), Green (RoHS & no Sb/Br); Manufacturer: Texas Instruments; PartNumber: V62/07611-01XE; # of TX/RX: 4 TX / 0 RX; Drivers Per Package: 4; Number of Nodes: 32; Signaling Rate(Mbps): 30; Common Mode Range: -7 to 12; ESD(kV): 13; Fault Protection(V): -10 to 15; ICC(Max)(mA): 23; Supply Voltage(s)(V): 5; Rating: HiRel Enhanced Product; DatasheetVersion: SLLS732; PackageVersion: revG, Jan-2011; PackageReference: DW20; PackageDescription: 20-Pin Plastic Small Outline Integrated Circuit, 12.8 x 7.5 mm, Pitch 1.27 mm Pitch; Supplier 1: Newark; Supplier Part Number 1: 46M1903; Supplier 2: Mouser; Supplier Part Number 2: 595-V62/07611-01XE; Eco-Plan: Green (RoHS & no Sb/Br); SubFamily: RS-485; Receivers Per Package: 4; Isolated: No; Duplex: N/A; Mounting Technology: Surface Mount; Code_JEDEC: MS-013-AC; ComponentLink1Description: Datasheet; ComponentLink1URL: http://www.ti.com/general/docs/lit/getliterature.tsp?genericPartNumber=SN65LBC174A-EP&fileType=pdf; ComponentLink2Description: Package Specification; ComponentLink2URL: http://www.ti.com/litv/pdf/mpds006c
footprint DW20_N (SOIC, 20-Leads, Body 12.8x7.5mm, Pitch 1.27mm, IPC Medium Density)
footprint DW20_L (SOIC, 20-Leads, Body 12.8x7.5mm, Pitch 1.27mm, IPC High Density)
footprint DW20_M (SOIC, 20-Leads, Body 12.8x7.5mm, Pitch 1.27mm, IPC Low Density)
pins: 1 1A (in), 2 1Y (hiz), 3 NC, 4 1Z (hiz), 5 1,2EN (in), 6 2Z (hiz), 7 NC, 8 2Y (hiz), 9 2A (in), 10 GND (power), 11 3A (in), 12 3Y (hiz), 13 NC, 14 3Z (hiz), 15 3,4EN (in), 16 4Z (hiz), 17 NC, 18 4Y (hiz), 19 4A (in), 20 VCC (power)